# Altium schematic symbol library Zenerdiode.SchLib: 1 symbol
Pins are listed as number, name and electrical type; pins without a type are passive.

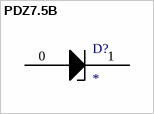
[diagram p0: symbol PDZ7.5B]

## PDZ7.5B
designator D?
footprint PCBComponent_1
pins: 0 In, 1 Out